# Altium schematic symbol library Communication.SchLib: 2 symbols
Pins are listed as number, name and electrical type; pins without a type are passive.

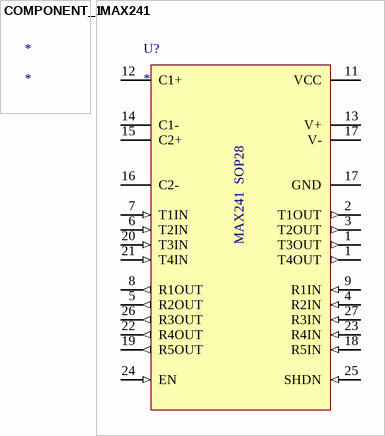
[diagram p0: symbols COMPONENT_1 to MAX241]

## COMPONENT_1
designator *

## MAX241
designator U?
TTL RS232 LEVEL CONVERTER,4 Divers/5 Receivers; Mfg PartNum: MAX241; Value: MAX241; Datasheet: *; ID: *; Part Numble: *; Part Type: IC
pins: 1 T3OUT (out), 1 T4OUT (out), 2 T1OUT (out), 3 T2OUT (out), 4 R2IN (in), 5 R2OUT (out), 6 T2IN (in), 7 T1IN (in), 8 R1OUT (out), 9 R1IN (in), 11 VCC (power), 12 C1+, 13 V+, 14 C1-, 15 C2+, 16 C2-, 17 V-, 17 GND (power), 18 R5IN (in), 19 R5OUT (out), 20 T3IN (in), 21 T4IN (in), 22 R4OUT (out), 23 R4IN (in), 24 EN (in), 25 SHDN (in), 26 R3OUT (out), 27 R3IN (in)
text: MAX241  SOP28